# Altium integrated library TI_Logic_Gate.IntLib: 2017 symbols (part 50 of 56)
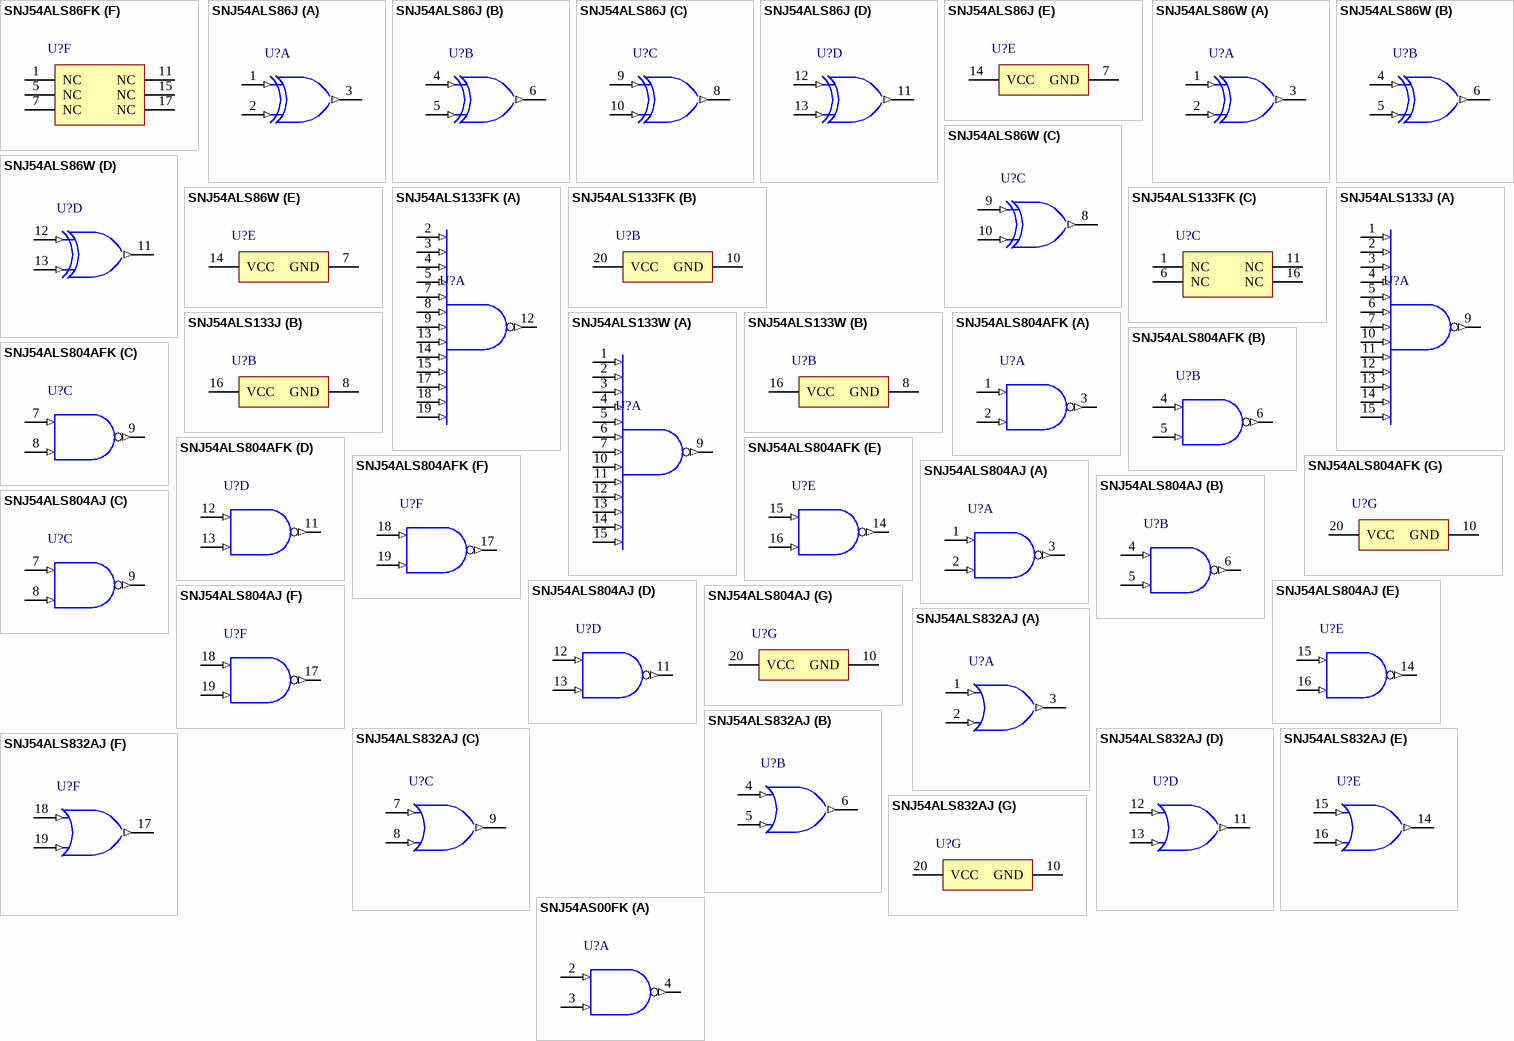
[diagram p274: symbols SNJ54ALS86FK to SNJ54AS00FK]

## SNJ54ALS804AFK
designator U?
Hex 2-Input NAND Drivers, FK0020A, TUBE; Generic Part Number: SN54ALS804A; Manufacturer: Texas Instruments; PartNumber: SNJ54ALS804AFK; VCC(Min)(V): 4.5; VCC(Max)(V): 5.5; Output Type: TTL; Rating: Military; Technology Family: ALS; Schmitt Trigger: No; DatasheetVersion: SDAS022C; PackageReference: FK0020A; Input Type: TTL; Operating Temperature Range(C): -55 to 125; Code_JEDEC: MS-004; ComponentLink1Description: Manufacturer URL; ComponentLink1URL: http://www.ti.com/; ComponentLink2Description: Datasheet; ComponentLink2URL: http://www.ti.com/lit/ds/symlink/sn54als804a.pdf; ComponentLink3Description: Package Specification; ComponentLink3URL: http://www.ti.com/lit/ml/mlcc006d/mlcc006d.pdf
footprint FK0020A_N (LCC, 20-Leads, Body 8.9x8.9mm, Pitch 1.27mm, IPC Medium Density)
footprint FK0020A_M (LCC, 20-Leads, Body 8.9x8.9mm, Pitch 1.27mm, IPC Low Density)
footprint FK0020A_L (LCC, 20-Leads, Body 8.9x8.9mm, Pitch 1.27mm, IPC High Density)
part A pins: 1 1A (in), 2 1B (in), 3 1Y (out)
part B pins: 4 2A (in), 5 2B (in), 6 2Y (out)
part C pins: 7 3A (in), 8 3B (in), 9 3Y (out)
part D pins: 11 4Y (out), 12 4A (in), 13 4B (in)
part E pins: 14 5Y (out), 15 5A (in), 16 5B (in)
part F pins: 17 6Y (out), 18 6A (in), 19 6B (in)
part G pins: 10 GND (power), 20 VCC (power)

## SNJ54ALS804AJ
designator U?
Hex 2-Input NAND Drivers, J0020A, TUBE; Generic Part Number: SN54ALS804A; Manufacturer: Texas Instruments; PartNumber: SNJ54ALS804AJ; VCC(Min)(V): 4.5; VCC(Max)(V): 5.5; Output Type: TTL; Rating: Military; Technology Family: ALS; Schmitt Trigger: No; DatasheetVersion: SDAS022C; PackageReference: J0020A; Input Type: TTL; Operating Temperature Range(C): -55 to 125; ComponentLink1Description: Manufacturer URL; ComponentLink1URL: http://www.ti.com/; ComponentLink2Description: Datasheet; ComponentLink2URL: http://www.ti.com/lit/ds/symlink/sn54als804a.pdf; ComponentLink3Description: Package Specification; ComponentLink3URL: http://www.ti.com/lit/ml/mcer002d/mcer002d.pdf
footprint J0020A (DIP, 20-Leads, Body 26.9x7.2mm, Pitch 2.54mm)
part A pins: 1 1A (in), 2 1B (in), 3 1Y (out)
part B pins: 4 2A (in), 5 2B (in), 6 2Y (out)
part C pins: 7 3A (in), 8 3B (in), 9 3Y (out)
part D pins: 11 4Y (out), 12 4A (in), 13 4B (in)
part E pins: 14 5Y (out), 15 5A (in), 16 5B (in)
part F pins: 17 6Y (out), 18 6A (in), 19 6B (in)
part G pins: 10 GND (power), 20 VCC (power)

## SNJ54ALS832AJ
designator U?
Hex 2-Input OR Drivers, J0020A, TUBE; Generic Part Number: SN54ALS832A; Manufacturer: Texas Instruments; PartNumber: SNJ54ALS832AJ; VCC(Min)(V): 4.5; VCC(Max)(V): 5.5; Output Type: TTL; Bits(#): 6; Rating: Military; tpd @ Nom Voltage(Max)(ns): 13; DatasheetVersion: SDAS017C; PackageReference: J0020A; Input Type: TTL; Operating Temperature Range(C): -55 to 125; ComponentLink1Description: Manufacturer URL; ComponentLink1URL: http://www.ti.com/; ComponentLink2Description: Datasheet; ComponentLink2URL: http://www.ti.com/lit/ds/symlink/sn54als832a.pdf; ComponentLink3Description: Package Specification; ComponentLink3URL: http://www.ti.com/lit/ml/mcer002d/mcer002d.pdf
footprint J0020A (DIP, 20-Leads, Body 26.9x7.2mm, Pitch 2.54mm)
part A pins: 1 1A (in), 2 1B (in), 3 1Y (out)
part B pins: 4 2A (in), 5 2B (in), 6 2Y (out)
part C pins: 7 3A (in), 8 3B (in), 9 3Y (out)
part D pins: 11 4Y (out), 12 4A (in), 13 4B (in)
part E pins: 14 5Y (out), 15 5A (in), 16 5B (in)
part F pins: 17 6Y (out), 18 6A (in), 19 6B (in)
part G pins: 10 GND (power), 20 VCC (power)

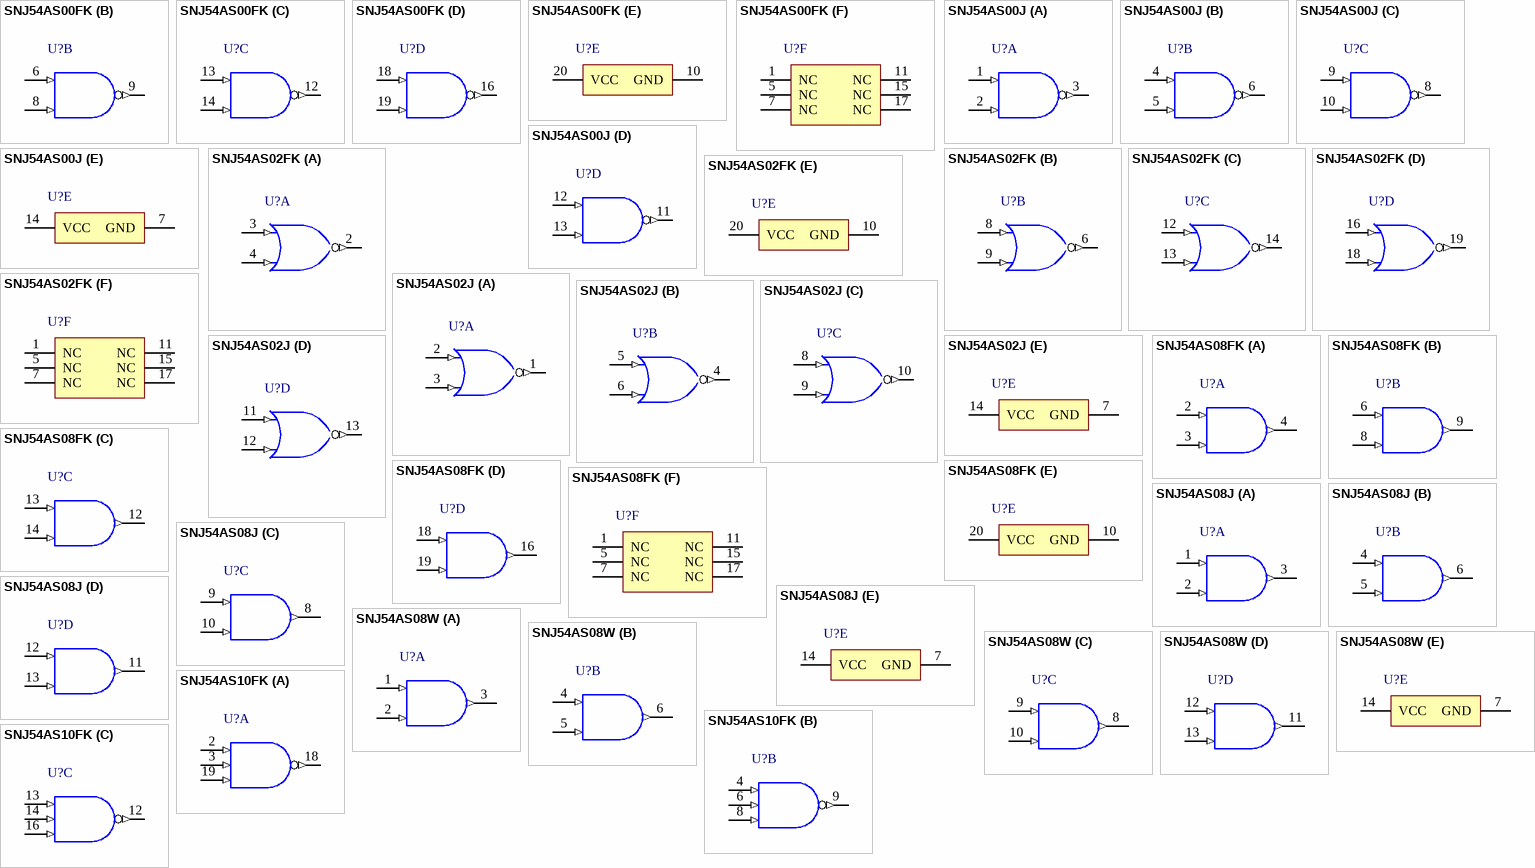
[diagram p198: symbols SNJ54AS00FK to SNJ54AS10FK]

## SNJ54AS00FK
designator U?
Quadruple 2-Input Positive-NAND Gates, FK0020A, TUBE; Generic Part Number: SN54AS00; Manufacturer: Texas Instruments; PartNumber: SNJ54AS00FK; VCC(Min)(V): 4.5; VCC(Max)(V): 5.5; Output Type: TTL; Rating: Military; Technology Family: AS; Schmitt Trigger: No; DatasheetVersion: SDAS187A; PackageReference: FK0020A; Input Type: TTL; Operating Temperature Range(C): -55 to 125; Code_JEDEC: MS-004; ComponentLink1Description: Manufacturer URL; ComponentLink1URL: http://www.ti.com/; ComponentLink2Description: Datasheet; ComponentLink2URL: http://www.ti.com/lit/ds/symlink/sn54as00.pdf; ComponentLink3Description: Package Specification; ComponentLink3URL: http://www.ti.com/lit/ml/mlcc006d/mlcc006d.pdf
footprint FK0020A_N (LCC, 20-Leads, Body 8.9x8.9mm, Pitch 1.27mm, IPC Medium Density)
footprint FK0020A_M (LCC, 20-Leads, Body 8.9x8.9mm, Pitch 1.27mm, IPC Low Density)
footprint FK0020A_L (LCC, 20-Leads, Body 8.9x8.9mm, Pitch 1.27mm, IPC High Density)
part A pins: 2 1A (in), 3 1B (in), 4 1Y (out)
part B pins: 6 2A (in), 8 2B (in), 9 2Y (out)
part C pins: 12 3Y (out), 13 3A (in), 14 3B (in)
part D pins: 16 4Y (out), 18 4A (in), 19 4B (in)
part E pins: 10 GND (power), 20 VCC (power)
part F pins: 1 NC, 5 NC, 7 NC, 11 NC, 15 NC, 17 NC

## SNJ54AS00J
designator U?
Quadruple 2-Input Positive-NAND Gates, J0014A, TUBE; Generic Part Number: SN54AS00; Manufacturer: Texas Instruments; PartNumber: SNJ54AS00J; VCC(Min)(V): 4.5; VCC(Max)(V): 5.5; Output Type: TTL; Rating: Military; Technology Family: AS; Schmitt Trigger: No; DatasheetVersion: SDAS187A; PackageReference: J0014A; Input Type: TTL; Operating Temperature Range(C): -55 to 125; ComponentLink1Description: Manufacturer URL; ComponentLink1URL: http://www.ti.com/; ComponentLink2Description: Datasheet; ComponentLink2URL: http://www.ti.com/lit/ds/symlink/sn54as00.pdf; ComponentLink3Description: Package Specification; ComponentLink3URL: http://www.ti.com/lit/ml/mcer002d/mcer002d.pdf
footprint J0014A (DIP, 14-Leads, Body 19.95x7.2mm, Pitch 2.54mm)
part A pins: 1 1A (in) "Gate 1 input", 2 1B (in) "Gate 1 input", 3 1Y (out) "Gate 1 output"
part B pins: 4 2A (in) "Gate 2 input", 5 2B (in) "Gate 2 input", 6 2Y (out) "Gate 2 output"
part C pins: 8 3Y (out) "Gate 3 output", 9 3A (in) "Gate 3 input", 10 3B (in) "Gate 3 input"
part D pins: 11 4Y (out) "Gate 4 output", 12 4A (in) "Gate 4 input", 13 4B (in) "Gate 4 input"
part E pins: 7 GND (power) "Ground Pin", 14 VCC (power) "Power Pin"

## SNJ54AS02FK
designator U?
Quadruple 2-Input Positive-NOR Gates, FK0020A, TUBE; Generic Part Number: SN54AS02; Manufacturer: Texas Instruments; PartNumber: SNJ54AS02FK; VCC(Min)(V): 4.5; VCC(Max)(V): 5.5; Output Type: TTL; Bits(#): 4; Rating: Military; tpd @ Nom Voltage(Max)(ns): 6; DatasheetVersion: SDAS111B; PackageReference: FK0020A; Input Type: TTL; Operating Temperature Range(C): -55 to 125; Code_JEDEC: MS-004; ComponentLink1Description: Manufacturer URL; ComponentLink1URL: http://www.ti.com/; ComponentLink2Description: Datasheet; ComponentLink2URL: http://www.ti.com/lit/ds/symlink/sn54as02.pdf; ComponentLink3Description: Package Specification; ComponentLink3URL: http://www.ti.com/lit/ml/mlcc006d/mlcc006d.pdf
footprint FK0020A_N (LCC, 20-Leads, Body 8.9x8.9mm, Pitch 1.27mm, IPC Medium Density)
footprint FK0020A_M (LCC, 20-Leads, Body 8.9x8.9mm, Pitch 1.27mm, IPC Low Density)
footprint FK0020A_L (LCC, 20-Leads, Body 8.9x8.9mm, Pitch 1.27mm, IPC High Density)
part A pins: 2 1Y (out), 3 1A (in), 4 1B (in)
part B pins: 6 2Y (out), 8 2A (in), 9 2B (in)
part C pins: 12 3A (in), 13 3B (in), 14 3Y (out)
part D pins: 16 4A (in), 18 4B (in), 19 4Y (out)
part E pins: 10 GND (power), 20 VCC (power)
part F pins: 1 NC, 5 NC, 7 NC, 11 NC, 15 NC, 17 NC

## SNJ54AS02J
designator U?
Quadruple 2-Input Positive-NOR Gates, J0014A, TUBE; Generic Part Number: SN54AS02; Manufacturer: Texas Instruments; PartNumber: SNJ54AS02J; VCC(Min)(V): 4.5; VCC(Max)(V): 5.5; Output Type: TTL; Bits(#): 4; Rating: Military; tpd @ Nom Voltage(Max)(ns): 6; DatasheetVersion: SDAS111B; PackageReference: J0014A; Input Type: TTL; Operating Temperature Range(C): -55 to 125; ComponentLink1Description: Manufacturer URL; ComponentLink1URL: http://www.ti.com/; ComponentLink2Description: Datasheet; ComponentLink2URL: http://www.ti.com/lit/ds/symlink/sn54as02.pdf; ComponentLink3Description: Package Specification; ComponentLink3URL: http://www.ti.com/lit/ml/mcer002d/mcer002d.pdf
footprint J0014A (DIP, 14-Leads, Body 19.95x7.2mm, Pitch 2.54mm)
part A pins: 1 1Y (out) "1Y output", 2 1A (in) "1A input", 3 1B (in) "1B input"
part B pins: 4 2Y (out) "2Y output", 5 2A (in) "2A input", 6 2B (in) "2B input"
part C pins: 8 3A (in) "3A input", 9 3B (in) "3B input", 10 3Y (out) "3Y output"
part D pins: 11 4A (in) "4A input", 12 4B (in) "4B input", 13 4Y (out) "4Y output"
part E pins: 7 GND (power), 14 VCC (power)

## SNJ54AS08FK
designator U?
Quadruple 2-Input Positive-AND Gates, FK0020A, TUBE; Generic Part Number: SN54AS08; Manufacturer: Texas Instruments; PartNumber: SNJ54AS08FK; VCC(Min)(V): 4.5; VCC(Max)(V): 5.5; Output Type: TTL; Rating: Military; Technology Family: AS; Schmitt Trigger: No; Output Drive (IOL/IOH)(Max)(mA): -0.4/4; tpd @ Nom Voltage(Max)(ns): 6.5; DatasheetVersion: SDAS191A; PackageReference: FK0020A; Input Type: TTL; Operating Temperature Range(C): -55 to 125; Code_JEDEC: MS-004; ComponentLink1Description: Manufacturer URL; ComponentLink1URL: http://www.ti.com/; ComponentLink2Description: Datasheet; ComponentLink2URL: http://www.ti.com/lit/ds/symlink/sn54as08.pdf; ComponentLink3Description: Package Specification; ComponentLink3URL: http://www.ti.com/lit/ml/mlcc006d/mlcc006d.pdf
footprint FK0020A_N (LCC, 20-Leads, Body 8.9x8.9mm, Pitch 1.27mm, IPC Medium Density)
footprint FK0020A_M (LCC, 20-Leads, Body 8.9x8.9mm, Pitch 1.27mm, IPC Low Density)
footprint FK0020A_L (LCC, 20-Leads, Body 8.9x8.9mm, Pitch 1.27mm, IPC High Density)
part A pins: 2 1A (in), 3 1B (in), 4 1Y (out)
part B pins: 6 2A (in), 8 2B (in), 9 2Y (out)
part C pins: 12 3Y (out), 13 3A (in), 14 3B (in)
part D pins: 16 4Y (out), 18 4A (in), 19 4B (in)
part E pins: 10 GND (power), 20 VCC (power)
part F pins: 1 NC, 5 NC, 7 NC, 11 NC, 15 NC, 17 NC

## SNJ54AS08J
designator U?
Quadruple 2-Input Positive-AND Gates, J0014A, TUBE; Generic Part Number: SN54AS08; Manufacturer: Texas Instruments; PartNumber: SNJ54AS08J; VCC(Min)(V): 4.5; VCC(Max)(V): 5.5; Output Type: TTL; Rating: Military; Technology Family: AS; Schmitt Trigger: No; Output Drive (IOL/IOH)(Max)(mA): -0.4/4; tpd @ Nom Voltage(Max)(ns): 6.5; DatasheetVersion: SDAS191A; PackageReference: J0014A; Input Type: TTL; Operating Temperature Range(C): -55 to 125; ComponentLink1Description: Manufacturer URL; ComponentLink1URL: http://www.ti.com/; ComponentLink2Description: Datasheet; ComponentLink2URL: http://www.ti.com/lit/ds/symlink/sn54as08.pdf
footprint J0014A (DIP, 14-Leads, Body 19.95x7.2mm, Pitch 2.54mm)
part A pins: 1 1A (in), 2 1B (in), 3 1Y (out)
part B pins: 4 2A (in), 5 2B (in), 6 2Y (out)
part C pins: 8 3Y (out), 9 3A (in), 10 3B (in)
part D pins: 11 4Y (out), 12 4A (in), 13 4B (in)
part E pins: 7 GND (power), 14 VCC (power)

## SNJ54AS08W
designator U?
Quadruple 2-Input Positive-AND Gates, W0014A, TUBE; Generic Part Number: SN54AS08; Manufacturer: Texas Instruments; PartNumber: SNJ54AS08W; VCC(Min)(V): 4.5; VCC(Max)(V): 5.5; Output Type: TTL; Rating: Military; Technology Family: AS; Schmitt Trigger: No; Output Drive (IOL/IOH)(Max)(mA): -0.4/4; tpd @ Nom Voltage(Max)(ns): 6.5; DatasheetVersion: SDAS191A; PackageReference: W0014A; Input Type: TTL; Operating Temperature Range(C): -55 to 125; ComponentLink1Description: Manufacturer URL; ComponentLink1URL: http://www.ti.com/; ComponentLink2Description: Datasheet; ComponentLink2URL: http://www.ti.com/lit/ds/symlink/sn54as08.pdf
footprint W0014A_N (CFP, 14-Leads, Body 9.91x6.6mm, Pitch 1.27mm, IPC Medium Density)
footprint W0014A_M (CFP, 14-Leads, Body 9.91x6.6mm, Pitch 1.27mm, IPC Low Density)
footprint W0014A_L (CFP, 14-Leads, Body 9.91x6.6mm, Pitch 1.27mm, IPC High Density)
part A pins: 1 1A (in), 2 1B (in), 3 1Y (out)
part B pins: 4 2A (in), 5 2B (in), 6 2Y (out)
part C pins: 8 3Y (out), 9 3A (in), 10 3B (in)
part D pins: 11 4Y (out), 12 4A (in), 13 4B (in)
part E pins: 7 GND (power), 14 VCC (power)

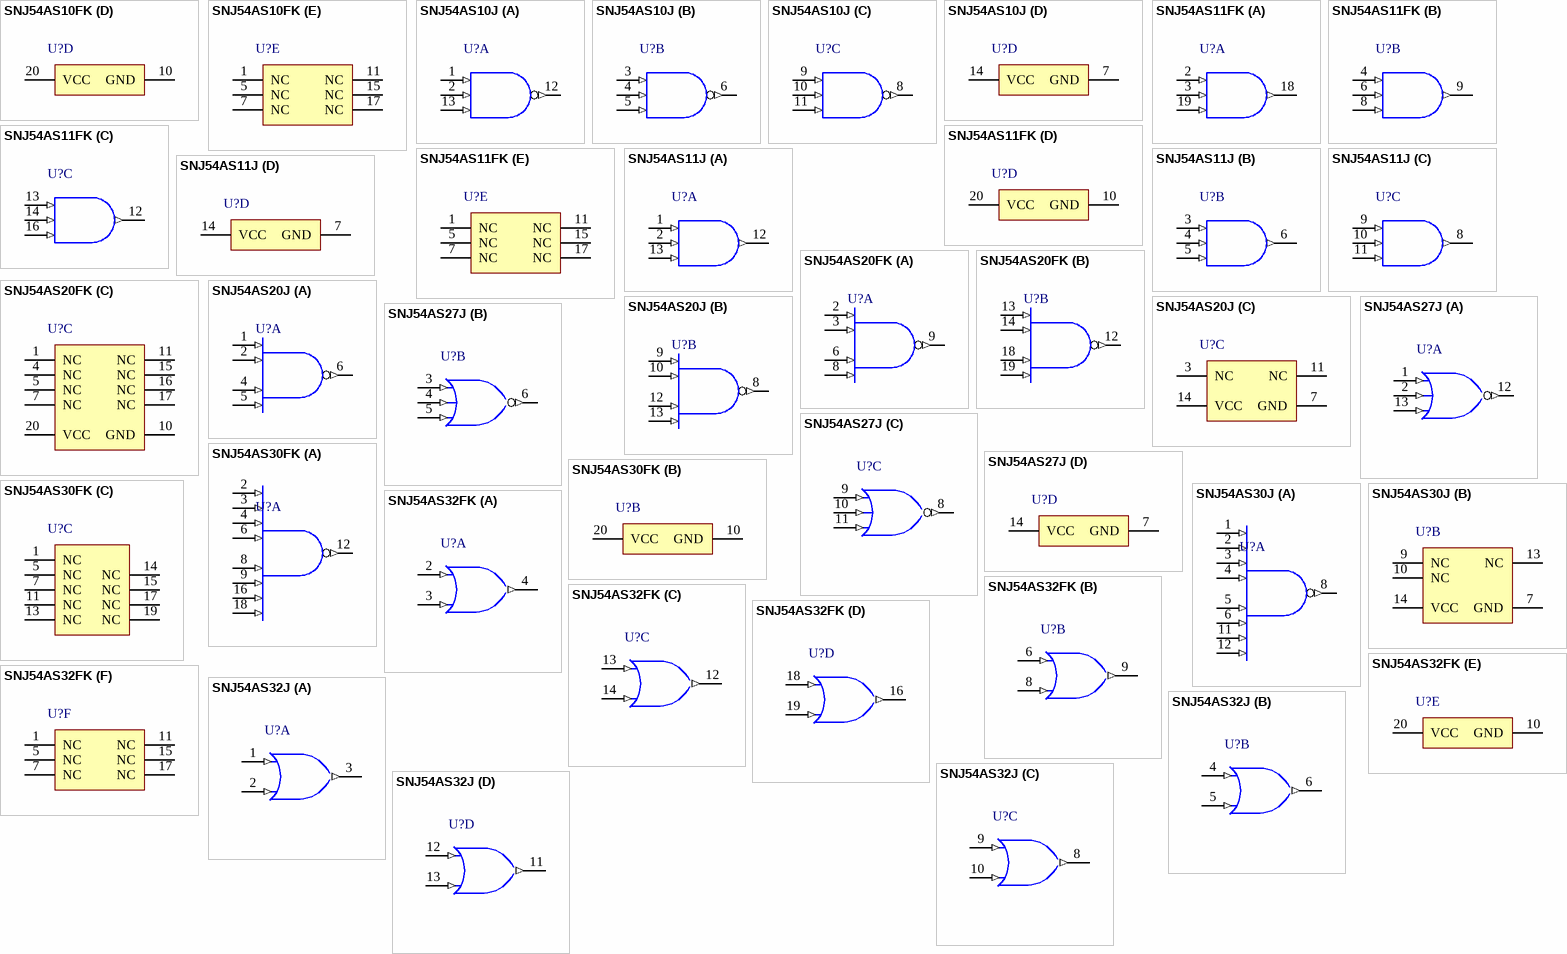
[diagram p199: symbols SNJ54AS10FK to SNJ54AS32J]

## SNJ54AS10FK
designator U?
Triple 3-Input Positive-NAND Gates, FK0020A, TUBE; Generic Part Number: SN54AS10; Manufacturer: Texas Instruments; PartNumber: SNJ54AS10FK; VCC(Min)(V): 4.5; VCC(Max)(V): 5.5; Output Type: TTL; Rating: Military; Technology Family: AS; Schmitt Trigger: No; DatasheetVersion: SDAS002B; PackageReference: FK0020A; Input Type: TTL; Operating Temperature Range(C): -55 to 125; Code_JEDEC: MS-004; ComponentLink1Description: Manufacturer URL; ComponentLink1URL: http://www.ti.com/; ComponentLink2Description: Datasheet; ComponentLink2URL: http://www.ti.com/lit/ds/symlink/sn54as10.pdf; ComponentLink3Description: Package Specification; ComponentLink3URL: http://www.ti.com/lit/ml/mlcc006d/mlcc006d.pdf
footprint FK0020A_N (LCC, 20-Leads, Body 8.9x8.9mm, Pitch 1.27mm, IPC Medium Density)
footprint FK0020A_M (LCC, 20-Leads, Body 8.9x8.9mm, Pitch 1.27mm, IPC Low Density)
footprint FK0020A_L (LCC, 20-Leads, Body 8.9x8.9mm, Pitch 1.27mm, IPC High Density)
part A pins: 2 1A (in), 3 1B (in), 18 1Y (out), 19 1C (in)
part B pins: 4 2A (in), 6 2B (in), 8 2C (in), 9 2Y (out)
part C pins: 12 3Y (out), 13 3A (in), 14 3B (in), 16 3C (in)
part D pins: 10 GND (power), 20 VCC (power)
part E pins: 1 NC, 5 NC, 7 NC, 11 NC, 15 NC, 17 NC

## SNJ54AS10J
designator U?
Triple 3-Input Positive-NAND Gates, J0014A, TUBE; Generic Part Number: SN54AS10; Manufacturer: Texas Instruments; PartNumber: SNJ54AS10J; VCC(Min)(V): 4.5; VCC(Max)(V): 5.5; Output Type: TTL; Rating: Military; Technology Family: AS; Schmitt Trigger: No; DatasheetVersion: SDAS002B; PackageReference: J0014A; Input Type: TTL; Operating Temperature Range(C): -55 to 125; ComponentLink1Description: Manufacturer URL; ComponentLink1URL: http://www.ti.com/; ComponentLink2Description: Datasheet; ComponentLink2URL: http://www.ti.com/lit/ds/symlink/sn54as10.pdf; ComponentLink3Description: Package Specification; ComponentLink3URL: http://www.ti.com/lit/ml/mcer002d/mcer002d.pdf
footprint J0014A (DIP, 14-Leads, Body 19.95x7.2mm, Pitch 2.54mm)
part A pins: 1 1A (in), 2 1B (in), 12 1Y (out), 13 1C (in)
part B pins: 3 2A (in), 4 2B (in), 5 2C (in), 6 2Y (out)
part C pins: 8 3Y (out), 9 3A (in), 10 3B (in), 11 3C (in)
part D pins: 7 GND (power), 14 VCC (power)

## SNJ54AS11FK
designator U?
Triple 3-Input Positive-AND Gates, FK0020A, TUBE; Generic Part Number: SN54AS11; Manufacturer: Texas Instruments; PartNumber: SNJ54AS11FK; VCC(Min)(V): 4.5; VCC(Max)(V): 5.5; Output Type: TTL; Rating: Military; Technology Family: AS; Schmitt Trigger: No; tpd @ Nom Voltage(Max)(ns): 6.5; DatasheetVersion: SDAS009D; PackageReference: FK0020A; Input Type: TTL; Operating Temperature Range(C): -55 to 125; Code_JEDEC: MS-004; ComponentLink1Description: Manufacturer URL; ComponentLink1URL: http://www.ti.com/; ComponentLink2Description: Datasheet; ComponentLink2URL: http://www.ti.com/lit/ds/symlink/sn54as11.pdf; ComponentLink3Description: Package Specification; ComponentLink3URL: http://www.ti.com/lit/ml/mlcc006d/mlcc006d.pdf
footprint FK0020A_N (LCC, 20-Leads, Body 8.9x8.9mm, Pitch 1.27mm, IPC Medium Density)
footprint FK0020A_M (LCC, 20-Leads, Body 8.9x8.9mm, Pitch 1.27mm, IPC Low Density)
footprint FK0020A_L (LCC, 20-Leads, Body 8.9x8.9mm, Pitch 1.27mm, IPC High Density)
part A pins: 2 1A (in), 3 1B (in), 18 1Y (out), 19 1C (in)
part B pins: 4 2A (in), 6 2B (in), 8 2C (in), 9 2Y (out)
part C pins: 12 3Y (out), 13 3A (in), 14 3B (in), 16 3C (in)
part D pins: 10 GND (power), 20 VCC (power)
part E pins: 1 NC, 5 NC, 7 NC, 11 NC, 15 NC, 17 NC

## SNJ54AS11J
designator U?
Triple 3-Input Positive-AND Gates, J0014A, TUBE; Generic Part Number: SN54AS11; Manufacturer: Texas Instruments; PartNumber: SNJ54AS11J; VCC(Min)(V): 4.5; VCC(Max)(V): 5.5; Output Type: TTL; Rating: Military; Technology Family: AS; Schmitt Trigger: No; tpd @ Nom Voltage(Max)(ns): 6.5; DatasheetVersion: SDAS009D; PackageReference: J0014A; Input Type: TTL; Operating Temperature Range(C): -55 to 125; ComponentLink1Description: Manufacturer URL; ComponentLink1URL: http://www.ti.com/; ComponentLink2Description: Datasheet; ComponentLink2URL: http://www.ti.com/lit/ds/symlink/sn54as11.pdf
footprint J0014A (DIP, 14-Leads, Body 19.95x7.2mm, Pitch 2.54mm)
part A pins: 1 1A (in), 2 1B (in), 12 1Y (out), 13 1C (in)
part B pins: 3 2A (in), 4 2B (in), 5 2C (in), 6 2Y (out)
part C pins: 8 3Y (out), 9 3A (in), 10 3B (in), 11 3C (in)
part D pins: 7 GND (power), 14 VCC (power)

## SNJ54AS20FK
designator U?
Dual 4-Input Positive-NAND Gates, FK0020A, TUBE; Generic Part Number: SN54AS20; Manufacturer: Texas Instruments; PartNumber: SNJ54AS20FK; VCC(Min)(V): 4.5; VCC(Max)(V): 5.5; Output Type: TTL; Rating: Military; Technology Family: AS; Schmitt Trigger: No; DatasheetVersion: SDAS192B; PackageReference: FK0020A; Input Type: TTL; Operating Temperature Range(C): -55 to 125; Code_JEDEC: MS-004; ComponentLink1Description: Manufacturer URL; ComponentLink1URL: http://www.ti.com/; ComponentLink2Description: Datasheet; ComponentLink2URL: http://www.ti.com/lit/ds/symlink/sn54as20.pdf; ComponentLink3Description: Package Specification; ComponentLink3URL: http://www.ti.com/lit/ml/mlcc006d/mlcc006d.pdf
footprint FK0020A_N (LCC, 20-Leads, Body 8.9x8.9mm, Pitch 1.27mm, IPC Medium Density)
footprint FK0020A_M (LCC, 20-Leads, Body 8.9x8.9mm, Pitch 1.27mm, IPC Low Density)
footprint FK0020A_L (LCC, 20-Leads, Body 8.9x8.9mm, Pitch 1.27mm, IPC High Density)
part A pins: 2 1A (in), 3 1B (in), 6 1C (in), 8 1D (in), 9 1Y (out)
part B pins: 12 2Y (out), 13 2A (in), 14 2B (in), 18 2C (in), 19 2D (in)
part C pins: 1 NC, 4 NC, 5 NC, 7 NC, 10 GND (power), 11 NC, 15 NC, 16 NC, 17 NC, 20 VCC (power)

## SNJ54AS20J
designator U?
Dual 4-Input Positive-NAND Gates, J0014A, TUBE; Generic Part Number: SN54AS20; Manufacturer: Texas Instruments; PartNumber: SNJ54AS20J; VCC(Min)(V): 4.5; VCC(Max)(V): 5.5; Output Type: TTL; Rating: Military; Technology Family: AS; Schmitt Trigger: No; DatasheetVersion: SDAS192B; PackageReference: J0014A; Input Type: TTL; Operating Temperature Range(C): -55 to 125; ComponentLink1Description: Manufacturer URL; ComponentLink1URL: http://www.ti.com/; ComponentLink2Description: Datasheet; ComponentLink2URL: http://www.ti.com/lit/ds/symlink/sn54as20.pdf; ComponentLink3Description: Package Specification; ComponentLink3URL: http://www.ti.com/lit/ml/mcer002d/mcer002d.pdf
footprint J0014A (DIP, 14-Leads, Body 19.95x7.2mm, Pitch 2.54mm)
part A pins: 1 1A (in), 2 1B (in), 4 1C (in), 5 1D (in), 6 1Y (out)
part B pins: 8 2Y (out), 9 2A (in), 10 2B (in), 12 2C (in), 13 2D (in)
part C pins: 3 NC, 7 GND (power), 11 NC, 14 VCC (power)

## SNJ54AS27J
designator U?
Triple 3-Input Positive-NOR Gates, J0014A, TUBE; Generic Part Number: SN54AS27; Manufacturer: Texas Instruments; PartNumber: SNJ54AS27J; VCC(Min)(V): 4.5; VCC(Max)(V): 5.5; Output Type: TTL; Bits(#): 3; Rating: Military; tpd @ Nom Voltage(Max)(ns): 6.5; DatasheetVersion: SDAS112B; PackageReference: J0014A; Input Type: TTL; Operating Temperature Range(C): -55 to 125; ComponentLink1Description: Manufacturer URL; ComponentLink1URL: http://www.ti.com/; ComponentLink2Description: Datasheet; ComponentLink2URL: http://www.ti.com/lit/ds/symlink/sn54as27.pdf; ComponentLink3Description: Package Specification; ComponentLink3URL: http://www.ti.com/lit/ml/mcer002d/mcer002d.pdf
footprint J0014A (DIP, 14-Leads, Body 19.95x7.2mm, Pitch 2.54mm)
part A pins: 1 1A (in), 2 1B (in), 12 1Y (out), 13 1C (in)
part B pins: 3 2A (in), 4 2B (in), 5 2C (in), 6 2Y (out)
part C pins: 8 3Y (out), 9 3A (in), 10 3B (in), 11 3C (in)
part D pins: 7 GND (power), 14 VCC (power)

## SNJ54AS30FK
designator U?
8-Input Positive-NAND Gates, FK0020A, TUBE; Generic Part Number: SN54AS30; Manufacturer: Texas Instruments; PartNumber: SNJ54AS30FK; VCC(Min)(V): 4.5; VCC(Max)(V): 5.5; Output Type: TTL; Rating: Military; Technology Family: AS; Schmitt Trigger: No; DatasheetVersion: SDAS010E; PackageReference: FK0020A; Input Type: TTL; Operating Temperature Range(C): -55 to 125; Code_JEDEC: MS-004; ComponentLink1Description: Manufacturer URL; ComponentLink1URL: http://www.ti.com/; ComponentLink2Description: Datasheet; ComponentLink2URL: http://www.ti.com/lit/ds/symlink/sn54as30.pdf; ComponentLink3Description: Package Specification; ComponentLink3URL: http://www.ti.com/lit/ml/mlcc006d/mlcc006d.pdf
footprint FK0020A_N (LCC, 20-Leads, Body 8.9x8.9mm, Pitch 1.27mm, IPC Medium Density)
footprint FK0020A_M (LCC, 20-Leads, Body 8.9x8.9mm, Pitch 1.27mm, IPC Low Density)
footprint FK0020A_L (LCC, 20-Leads, Body 8.9x8.9mm, Pitch 1.27mm, IPC High Density)
part A pins: 2 A (in), 3 B (in), 4 C (in), 6 D (in), 8 E (in), 9 F (in), 12 Y (out), 16 G (in), 18 H (in)
part B pins: 10 GND (power), 20 VCC (power)
part C pins: 1 NC, 5 NC, 7 NC, 11 NC, 13 NC, 14 NC, 15 NC, 17 NC, 19 NC

## SNJ54AS30J
designator U?
8-Input Positive-NAND Gates, J0014A, TUBE; Generic Part Number: SN54AS30; Manufacturer: Texas Instruments; PartNumber: SNJ54AS30J; VCC(Min)(V): 4.5; VCC(Max)(V): 5.5; Output Type: TTL; Rating: Military; Technology Family: AS; Schmitt Trigger: No; DatasheetVersion: SDAS010E; PackageReference: J0014A; Input Type: TTL; Operating Temperature Range(C): -55 to 125; ComponentLink1Description: Manufacturer URL; ComponentLink1URL: http://www.ti.com/; ComponentLink2Description: Datasheet; ComponentLink2URL: http://www.ti.com/lit/ds/symlink/sn54as30.pdf; ComponentLink3Description: Package Specification; ComponentLink3URL: http://www.ti.com/lit/ml/mcer002d/mcer002d.pdf
footprint J0014A (DIP, 14-Leads, Body 19.95x7.2mm, Pitch 2.54mm)
part A pins: 1 A (in), 2 B (in), 3 C (in), 4 D (in), 5 E (in), 6 F (in), 8 ~{Y} (out), 11 G (in), 12 H (in)
part B pins: 7 GND (power), 9 NC, 10 NC, 13 NC, 14 VCC (power)

## SNJ54AS32FK
designator U?
Quadruple 2-Input Positive-OR Gates, FK0020A, TUBE; Generic Part Number: SN54AS32; Manufacturer: Texas Instruments; PartNumber: SNJ54AS32FK; VCC(Min)(V): 4.5; VCC(Max)(V): 5.5; Output Type: TTL; Bits(#): 4; Rating: Military; tpd @ Nom Voltage(Max)(ns): 6.5; DatasheetVersion: SDAS113B; PackageReference: FK0020A; Input Type: TTL; Operating Temperature Range(C): -55 to 125; Code_JEDEC: MS-004; ComponentLink1Description: Manufacturer URL; ComponentLink1URL: http://www.ti.com/; ComponentLink2Description: Datasheet; ComponentLink2URL: http://www.ti.com/lit/ds/symlink/sn54as32.pdf; ComponentLink3Description: Package Specification; ComponentLink3URL: http://www.ti.com/lit/ml/mlcc006d/mlcc006d.pdf
footprint FK0020A_N (LCC, 20-Leads, Body 8.9x8.9mm, Pitch 1.27mm, IPC Medium Density)
footprint FK0020A_M (LCC, 20-Leads, Body 8.9x8.9mm, Pitch 1.27mm, IPC Low Density)
footprint FK0020A_L (LCC, 20-Leads, Body 8.9x8.9mm, Pitch 1.27mm, IPC High Density)
part A pins: 2 1A (in), 3 1B (in), 4 1Y (out)
part B pins: 6 2A (in), 8 2B (in), 9 2Y (out)
part C pins: 12 3Y (out), 13 3A (in), 14 3B (in)
part D pins: 16 4Y (out), 18 4A (in), 19 4B (in)
part E pins: 10 GND (power), 20 VCC (power)
part F pins: 1 NC, 5 NC, 7 NC, 11 NC, 15 NC, 17 NC

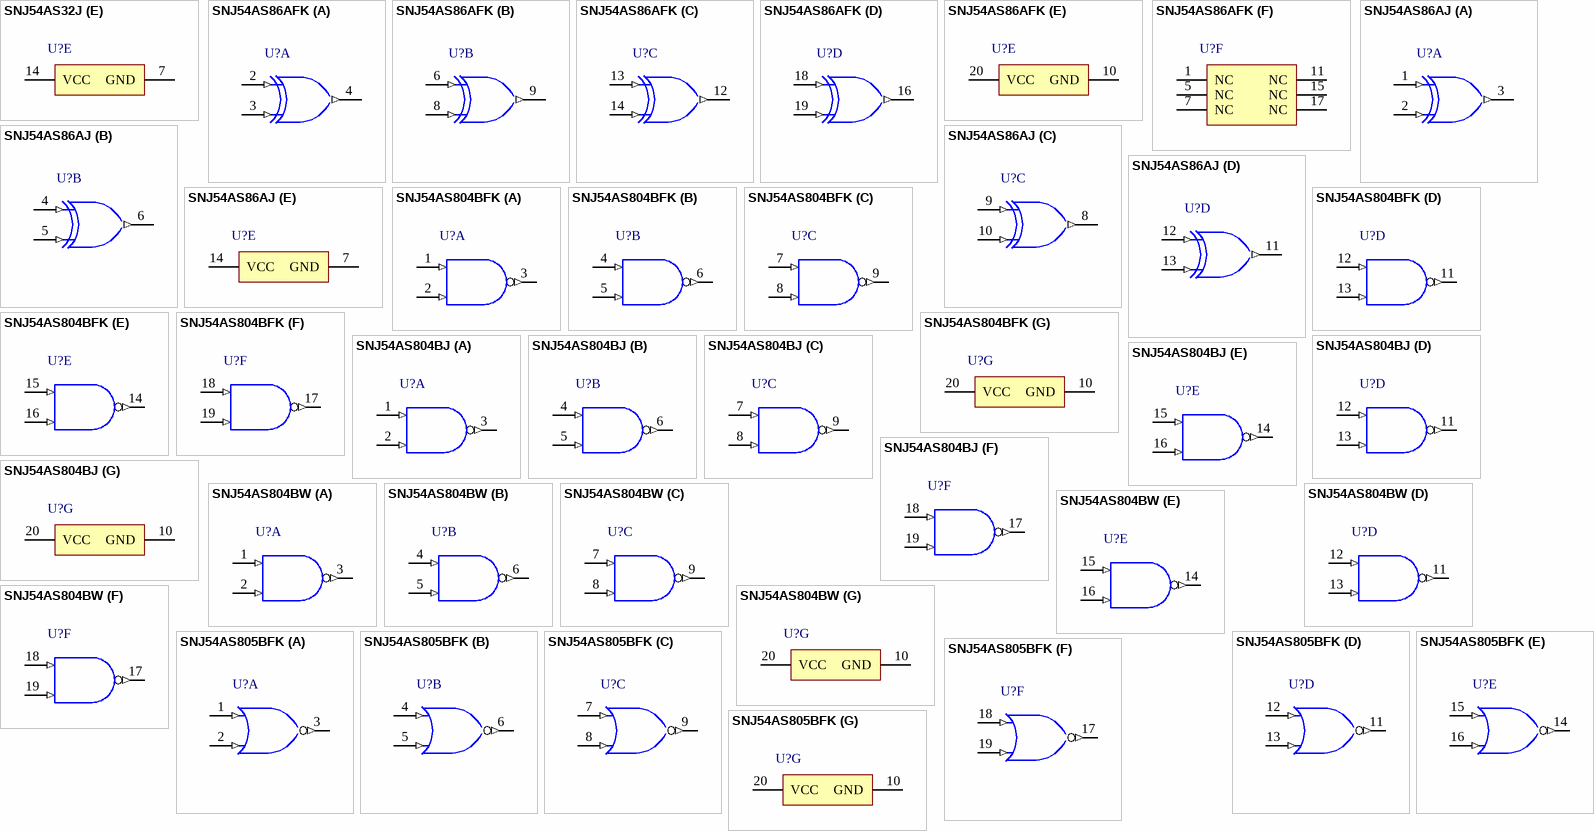
[diagram p200: symbols SNJ54AS32J to SNJ54AS805BFK]

## SNJ54AS32J
designator U?
Quadruple 2-Input Positive-OR Gates, J0014A, TUBE; Generic Part Number: SN54AS32; Manufacturer: Texas Instruments; PartNumber: SNJ54AS32J; VCC(Min)(V): 4.5; VCC(Max)(V): 5.5; Output Type: TTL; Bits(#): 4; Rating: Military; tpd @ Nom Voltage(Max)(ns): 6.5; DatasheetVersion: SDAS113B; PackageReference: J0014A; Input Type: TTL; Operating Temperature Range(C): -55 to 125; ComponentLink1Description: Manufacturer URL; ComponentLink1URL: http://www.ti.com/; ComponentLink2Description: Datasheet; ComponentLink2URL: http://www.ti.com/lit/ds/symlink/sn54as32.pdf; ComponentLink3Description: Package Specification; ComponentLink3URL: http://www.ti.com/lit/ml/mcer002d/mcer002d.pdf
footprint J0014A (DIP, 14-Leads, Body 19.95x7.2mm, Pitch 2.54mm)
part A pins: 1 1A (in), 2 1B (in), 3 1Y (out)
part B pins: 4 2A (in), 5 2B (in), 6 2Y (out)
part C pins: 8 3Y (out), 9 3A (in), 10 3B (in)
part D pins: 11 4Y (out), 12 4A (in), 13 4B (in)
part E pins: 7 GND (power), 14 VCC (power)

## SNJ54AS86AFK
designator U?
Quadruple 2-Input Exclusive-OR Gates, FK0020A, TUBE; Generic Part Number: SN54AS86A; Manufacturer: Texas Instruments; PartNumber: SNJ54AS86AFK; VCC(Min)(V): 4.5; VCC(Max)(V): 5.5; Output Type: TTL; Rating: Military; Technology Family: AS; Schmitt Trigger: No; DatasheetVersion: SDAS006B; PackageReference: FK0020A; Input Type: TTL; Operating Temperature Range(C): -55 to 125; Code_JEDEC: MS-004; ComponentLink1Description: Manufacturer URL; ComponentLink1URL: http://www.ti.com/; ComponentLink2Description: Datasheet; ComponentLink2URL: http://www.ti.com/lit/ds/symlink/sn54as86a.pdf; ComponentLink3Description: Package Specification; ComponentLink3URL: http://www.ti.com/lit/ml/mlcc006d/mlcc006d.pdf
footprint FK0020A_N (LCC, 20-Leads, Body 8.9x8.9mm, Pitch 1.27mm, IPC Medium Density)
footprint FK0020A_M (LCC, 20-Leads, Body 8.9x8.9mm, Pitch 1.27mm, IPC Low Density)
footprint FK0020A_L (LCC, 20-Leads, Body 8.9x8.9mm, Pitch 1.27mm, IPC High Density)
part A pins: 2 1A (in), 3 1B (in), 4 1Y (out)
part B pins: 6 2A (in), 8 2B (in), 9 2Y (out)
part C pins: 12 3Y (out), 13 3A (in), 14 3B (in)
part D pins: 16 4Y (out), 18 4A (in), 19 4B (in)
part E pins: 10 GND (power), 20 VCC (power)
part F pins: 1 NC, 5 NC, 7 NC, 11 NC, 15 NC, 17 NC

## SNJ54AS86AJ
designator U?
Quadruple 2-Input Exclusive-OR Gates, J0014A, TUBE; Generic Part Number: SN54AS86A; Manufacturer: Texas Instruments; PartNumber: SNJ54AS86AJ; VCC(Min)(V): 4.5; VCC(Max)(V): 5.5; Output Type: TTL; Rating: Military; Technology Family: AS; Schmitt Trigger: No; DatasheetVersion: SDAS006B; PackageReference: J0014A; Input Type: TTL; Operating Temperature Range(C): -55 to 125; ComponentLink1Description: Manufacturer URL; ComponentLink1URL: http://www.ti.com/; ComponentLink2Description: Datasheet; ComponentLink2URL: http://www.ti.com/lit/ds/symlink/sn54as86a.pdf
footprint J0014A (DIP, 14-Leads, Body 19.95x7.2mm, Pitch 2.54mm)
part A pins: 1 1A (in), 2 1B (in), 3 1Y (out)
part B pins: 4 2A (in), 5 2B (in), 6 2Y (out)
part C pins: 8 3Y (out), 9 3A (in), 10 3B (in)
part D pins: 11 4Y (out), 12 4A (in), 13 4B (in)
part E pins: 7 GND (power), 14 VCC (power)

## SNJ54AS804BFK
designator U?
Hex 2-Input NAND Drivers, FK0020A, TUBE; Generic Part Number: SN54AS804B; Manufacturer: Texas Instruments; PartNumber: SNJ54AS804BFK; VCC(Min)(V): 4.5; VCC(Max)(V): 5.5; Output Type: TTL; Rating: Military; Technology Family: AS; Schmitt Trigger: No; DatasheetVersion: SDAS022C; PackageReference: FK0020A; Input Type: TTL; Operating Temperature Range(C): -55 to 125; Code_JEDEC: MS-004; ComponentLink1Description: Manufacturer URL; ComponentLink1URL: http://www.ti.com/; ComponentLink2Description: Datasheet; ComponentLink2URL: http://www.ti.com/lit/ds/symlink/sn54as804b.pdf; ComponentLink3Description: Package Specification; ComponentLink3URL: http://www.ti.com/lit/ml/mlcc006d/mlcc006d.pdf
footprint FK0020A_N (LCC, 20-Leads, Body 8.9x8.9mm, Pitch 1.27mm, IPC Medium Density)
footprint FK0020A_M (LCC, 20-Leads, Body 8.9x8.9mm, Pitch 1.27mm, IPC Low Density)
footprint FK0020A_L (LCC, 20-Leads, Body 8.9x8.9mm, Pitch 1.27mm, IPC High Density)
part A pins: 1 1A (in), 2 1B (in), 3 1Y (out)
part B pins: 4 2A (in), 5 2B (in), 6 2Y (out)
part C pins: 7 3A (in), 8 3B (in), 9 3Y (out)
part D pins: 11 4Y (out), 12 4A (in), 13 4B (in)
part E pins: 14 5Y (out), 15 5A (in), 16 5B (in)
part F pins: 17 6Y (out), 18 6A (in), 19 6B (in)
part G pins: 10 GND (power), 20 VCC (power)

## SNJ54AS804BJ
designator U?
Hex 2-Input NAND Drivers, J0020A, TUBE; Generic Part Number: SN54AS804B; Manufacturer: Texas Instruments; PartNumber: SNJ54AS804BJ; VCC(Min)(V): 4.5; VCC(Max)(V): 5.5; Output Type: TTL; Rating: Military; Technology Family: AS; Schmitt Trigger: No; DatasheetVersion: SDAS022C; PackageReference: J0020A; Input Type: TTL; Operating Temperature Range(C): -55 to 125; ComponentLink1Description: Manufacturer URL; ComponentLink1URL: http://www.ti.com/; ComponentLink2Description: Datasheet; ComponentLink2URL: http://www.ti.com/lit/ds/symlink/sn54as804b.pdf; ComponentLink3Description: Package Specification; ComponentLink3URL: http://www.ti.com/lit/ml/mcer002d/mcer002d.pdf
footprint J0020A (DIP, 20-Leads, Body 26.9x7.2mm, Pitch 2.54mm)
part A pins: 1 1A (in), 2 1B (in), 3 1Y (out)
part B pins: 4 2A (in), 5 2B (in), 6 2Y (out)
part C pins: 7 3A (in), 8 3B (in), 9 3Y (out)
part D pins: 11 4Y (out), 12 4A (in), 13 4B (in)
part E pins: 14 5Y (out), 15 5A (in), 16 5B (in)
part F pins: 17 6Y (out), 18 6A (in), 19 6B (in)
part G pins: 10 GND (power), 20 VCC (power)

## SNJ54AS804BW
designator U?
Hex 2-Input NAND Drivers, W0020A, TUBE; Generic Part Number: SN54AS804B; Manufacturer: Texas Instruments; PartNumber: SNJ54AS804BW; VCC(Min)(V): 4.5; VCC(Max)(V): 5.5; Output Type: TTL; Rating: Military; Technology Family: AS; Schmitt Trigger: No; DatasheetVersion: SDAS022C; PackageReference: W0020A; Input Type: TTL; Operating Temperature Range(C): -55 to 125; ComponentLink1Description: Manufacturer URL; ComponentLink1URL: http://www.ti.com/; ComponentLink2Description: Datasheet; ComponentLink2URL: http://www.ti.com/lit/ds/symlink/sn54as804b.pdf; ComponentLink3Description: Package Specification; ComponentLink3URL: http://www.ti.com/lit/ml/mcfp006d/mcfp006d.pdf
footprint W0020A_N (CFP, 20-Leads, Body 13.72x7.62mm, Pitch 1.27mm, IPC Medium Density)
footprint W0020A_M (CFP, 20-Leads, Body 13.72x7.62mm, Pitch 1.27mm, IPC Low Density)
footprint W0020A_L (CFP, 20-Leads, Body 13.72x7.62mm, Pitch 1.27mm, IPC High Density)
part A pins: 1 1A (in), 2 1B (in), 3 1Y (out)
part B pins: 4 2A (in), 5 2B (in), 6 2Y (out)
part C pins: 7 3A (in), 8 3B (in), 9 3Y (out)
part D pins: 11 4Y (out), 12 4A (in), 13 4B (in)
part E pins: 14 5Y (out), 15 5A (in), 16 5B (in)
part F pins: 17 6Y (out), 18 6A (in), 19 6B (in)
part G pins: 10 GND (power), 20 VCC (power)

## SNJ54AS805BFK
designator U?
Hex 2-Input NOR Drivers, FK0020A, TUBE; Generic Part Number: SN54AS805B; Manufacturer: Texas Instruments; PartNumber: SNJ54AS805BFK; VCC(Min)(V): 4.5; VCC(Max)(V): 5.5; Output Type: TTL; Bits(#): 6; Rating: Military; tpd @ Nom Voltage(Max)(ns): 4.8; DatasheetVersion: SDAS023C; PackageReference: FK0020A; Input Type: TTL; Operating Temperature Range(C): -55 to 125; Code_JEDEC: MS-004; ComponentLink1Description: Manufacturer URL; ComponentLink1URL: http://www.ti.com/; ComponentLink2Description: Datasheet; ComponentLink2URL: http://www.ti.com/lit/ds/symlink/sn54as805b.pdf; ComponentLink3Description: Package Specification; ComponentLink3URL: http://www.ti.com/lit/ml/mlcc006d/mlcc006d.pdf
footprint FK0020A_N (LCC, 20-Leads, Body 8.9x8.9mm, Pitch 1.27mm, IPC Medium Density)
footprint FK0020A_M (LCC, 20-Leads, Body 8.9x8.9mm, Pitch 1.27mm, IPC Low Density)
footprint FK0020A_L (LCC, 20-Leads, Body 8.9x8.9mm, Pitch 1.27mm, IPC High Density)
part A pins: 1 1A (in), 2 1B (in), 3 1Y (out)
part B pins: 4 2A (in), 5 2B (in), 6 2Y (out)
part C pins: 7 3A (in), 8 3B (in), 9 3Y (out)
part D pins: 11 4Y (out), 12 4A (in), 13 4B (in)
part E pins: 14 5Y (out), 15 5A (in), 16 5B (in)
part F pins: 17 6Y (out), 18 6A (in), 19 6B (in)
part G pins: 10 GND (power), 20 VCC (power)

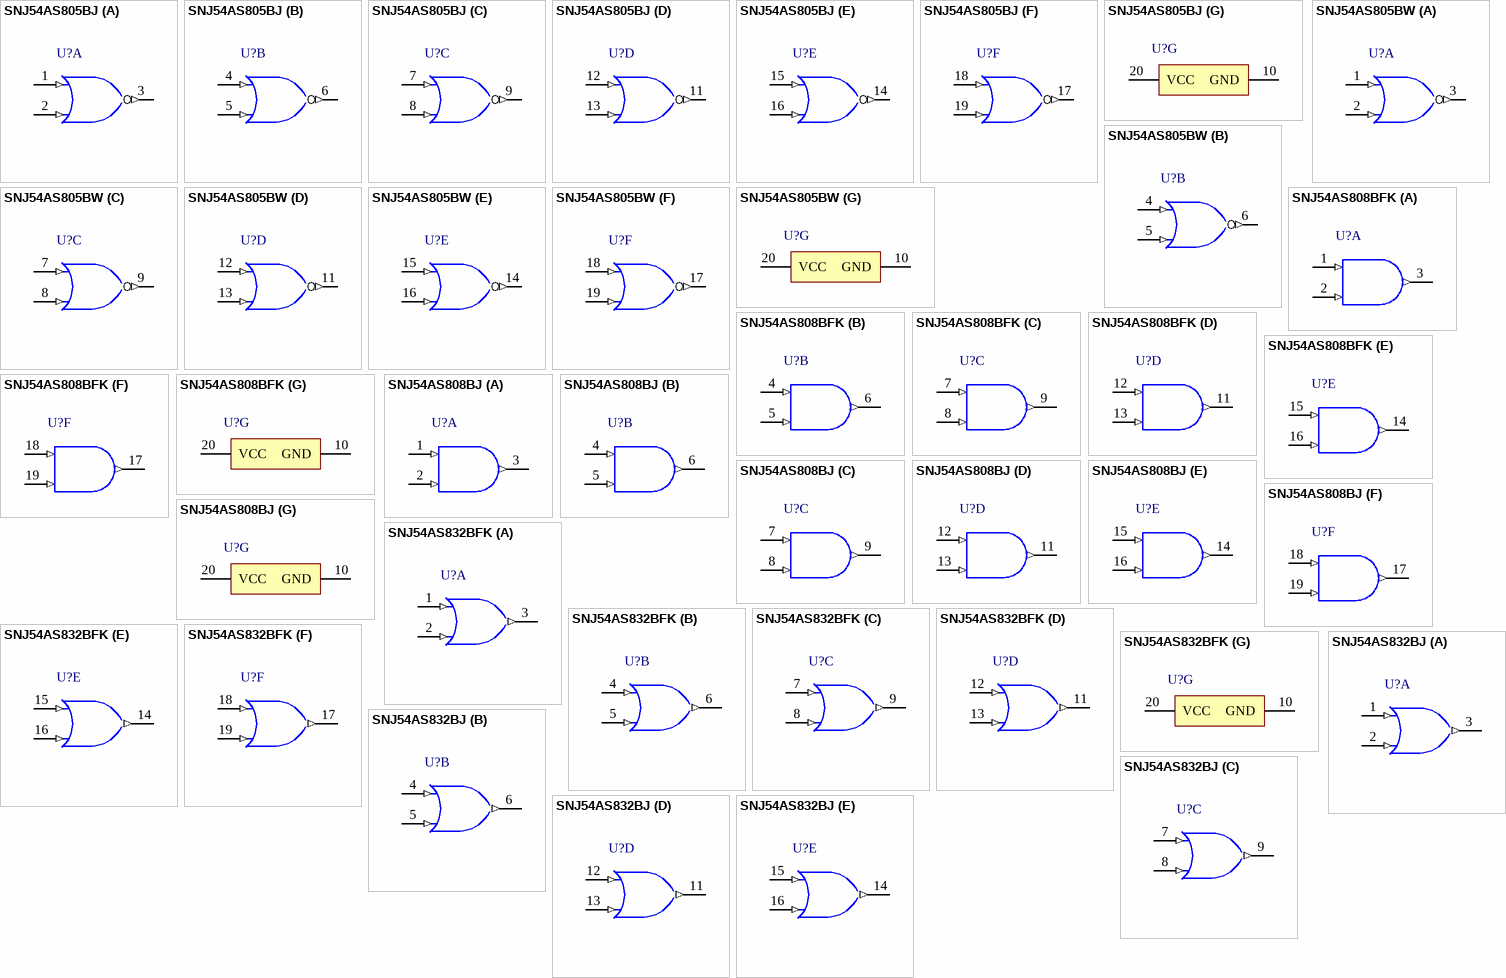
[diagram p201: symbols SNJ54AS805BJ to SNJ54AS832BJ]

## SNJ54AS805BJ
designator U?
Hex 2-Input NOR Drivers, J0020A, TUBE; Generic Part Number: SN54AS805B; Manufacturer: Texas Instruments; PartNumber: SNJ54AS805BJ; VCC(Min)(V): 4.5; VCC(Max)(V): 5.5; Output Type: TTL; Bits(#): 6; Rating: Military; tpd @ Nom Voltage(Max)(ns): 4.8; DatasheetVersion: SDAS023C; PackageReference: J0020A; Input Type: TTL; Operating Temperature Range(C): -55 to 125; ComponentLink1Description: Manufacturer URL; ComponentLink1URL: http://www.ti.com/; ComponentLink2Description: Datasheet; ComponentLink2URL: http://www.ti.com/lit/ds/symlink/sn54as805b.pdf; ComponentLink3Description: Package Specification; ComponentLink3URL: http://www.ti.com/lit/ml/mcer002d/mcer002d.pdf
footprint J0020A (DIP, 20-Leads, Body 26.9x7.2mm, Pitch 2.54mm)
part A pins: 1 1A (in), 2 1B (in), 3 1Y (out)
part B pins: 4 2A (in), 5 2B (in), 6 2Y (out)
part C pins: 7 3A (in), 8 3B (in), 9 3Y (out)
part D pins: 11 4Y (out), 12 4A (in), 13 4B (in)
part E pins: 14 5Y (out), 15 5A (in), 16 5B (in)
part F pins: 17 6Y (out), 18 6A (in), 19 6B (in)
part G pins: 10 GND (power), 20 VCC (power)

## SNJ54AS805BW
designator U?
Hex 2-Input NOR Drivers, W0020A, TUBE; Generic Part Number: SN54AS805B; Manufacturer: Texas Instruments; PartNumber: SNJ54AS805BW; VCC(Min)(V): 4.5; VCC(Max)(V): 5.5; Output Type: TTL; Bits(#): 6; Rating: Military; tpd @ Nom Voltage(Max)(ns): 4.8; DatasheetVersion: SDAS023C; PackageReference: W0020A; Input Type: TTL; Operating Temperature Range(C): -55 to 125; ComponentLink1Description: Manufacturer URL; ComponentLink1URL: http://www.ti.com/; ComponentLink2Description: Datasheet; ComponentLink2URL: http://www.ti.com/lit/ds/symlink/sn54as805b.pdf; ComponentLink3Description: Package Specification; ComponentLink3URL: http://www.ti.com/lit/ml/mcfp006d/mcfp006d.pdf
footprint W0020A_N (CFP, 20-Leads, Body 13.72x7.62mm, Pitch 1.27mm, IPC Medium Density)
footprint W0020A_M (CFP, 20-Leads, Body 13.72x7.62mm, Pitch 1.27mm, IPC Low Density)
footprint W0020A_L (CFP, 20-Leads, Body 13.72x7.62mm, Pitch 1.27mm, IPC High Density)
part A pins: 1 1A (in), 2 1B (in), 3 1Y (out)
part B pins: 4 2A (in), 5 2B (in), 6 2Y (out)
part C pins: 7 3A (in), 8 3B (in), 9 3Y (out)
part D pins: 11 4Y (out), 12 4A (in), 13 4B (in)
part E pins: 14 5Y (out), 15 5A (in), 16 5B (in)
part F pins: 17 6Y (out), 18 6A (in), 19 6B (in)
part G pins: 10 GND (power), 20 VCC (power)

## SNJ54AS808BFK
designator U?
Hex 2-Input And Drivers, FK0020A, TUBE; Generic Part Number: SN54AS808B; Manufacturer: Texas Instruments; PartNumber: SNJ54AS808BFK; VCC(Min)(V): 4.5; VCC(Max)(V): 5.5; Output Type: TTL; Rating: Military; Technology Family: AS; Schmitt Trigger: No; tpd @ Nom Voltage(Max)(ns): 6.5; DatasheetVersion: SDAS018C; PackageReference: FK0020A; Input Type: TTL; Operating Temperature Range(C): -55 to 125; Code_JEDEC: MS-004; ComponentLink1Description: Manufacturer URL; ComponentLink1URL: http://www.ti.com/; ComponentLink2Description: Datasheet; ComponentLink2URL: http://www.ti.com/lit/ds/symlink/sn54as808b.pdf; ComponentLink3Description: Package Specification; ComponentLink3URL: http://www.ti.com/lit/ml/mlcc006d/mlcc006d.pdf
footprint FK0020A_N (LCC, 20-Leads, Body 8.9x8.9mm, Pitch 1.27mm, IPC Medium Density)
footprint FK0020A_M (LCC, 20-Leads, Body 8.9x8.9mm, Pitch 1.27mm, IPC Low Density)
footprint FK0020A_L (LCC, 20-Leads, Body 8.9x8.9mm, Pitch 1.27mm, IPC High Density)
part A pins: 1 1A (in), 2 1B (in), 3 1Y (out)
part B pins: 4 2A (in), 5 2B (in), 6 2Y (out)
part C pins: 7 3A (in), 8 3B (in), 9 3Y (out)
part D pins: 11 4Y (out), 12 4A (in), 13 4B (in)
part E pins: 14 5Y (out), 15 5A (in), 16 5B (in)
part F pins: 17 6Y (out), 18 6A (in), 19 6B (in)
part G pins: 10 GND (power), 20 VCC (power)

## SNJ54AS808BJ
designator U?
Hex 2-Input And Drivers, J0020A, TUBE; Generic Part Number: SN54AS808B; Manufacturer: Texas Instruments; PartNumber: SNJ54AS808BJ; VCC(Min)(V): 4.5; VCC(Max)(V): 5.5; Output Type: TTL; Rating: Military; Technology Family: AS; Schmitt Trigger: No; tpd @ Nom Voltage(Max)(ns): 6.5; DatasheetVersion: SDAS018C; PackageReference: J0020A; Input Type: TTL; Operating Temperature Range(C): -55 to 125; ComponentLink1Description: Manufacturer URL; ComponentLink1URL: http://www.ti.com/; ComponentLink2Description: Datasheet; ComponentLink2URL: http://www.ti.com/lit/ds/symlink/sn54as808b.pdf
footprint J0020A (DIP, 20-Leads, Body 26.9x7.2mm, Pitch 2.54mm)
part A pins: 1 1A (in), 2 1B (in), 3 1Y (out)
part B pins: 4 2A (in), 5 2B (in), 6 2Y (out)
part C pins: 7 3A (in), 8 3B (in), 9 3Y (out)
part D pins: 11 4Y (out), 12 4A (in), 13 4B (in)
part E pins: 14 5Y (out), 15 5A (in), 16 5B (in)
part F pins: 17 6Y (out), 18 6A (in), 19 6B (in)
part G pins: 10 GND (power), 20 VCC (power)

## SNJ54AS832BFK
designator U?
Hex 2-Input OR Drivers, FK0020A, TUBE; Generic Part Number: SN54AS832B; Manufacturer: Texas Instruments; PartNumber: SNJ54AS832BFK; VCC(Min)(V): 4.5; VCC(Max)(V): 5.5; Output Type: TTL; Bits(#): 6; Rating: Military; tpd @ Nom Voltage(Max)(ns): 7.5; DatasheetVersion: SDAS017C; PackageReference: FK0020A; Input Type: TTL; Operating Temperature Range(C): -55 to 125; Code_JEDEC: MS-004; ComponentLink1Description: Manufacturer URL; ComponentLink1URL: http://www.ti.com/; ComponentLink2Description: Datasheet; ComponentLink2URL: http://www.ti.com/lit/ds/symlink/sn54as832b.pdf; ComponentLink3Description: Package Specification; ComponentLink3URL: http://www.ti.com/lit/ml/mlcc006d/mlcc006d.pdf
footprint FK0020A_N (LCC, 20-Leads, Body 8.9x8.9mm, Pitch 1.27mm, IPC Medium Density)
footprint FK0020A_M (LCC, 20-Leads, Body 8.9x8.9mm, Pitch 1.27mm, IPC Low Density)
footprint FK0020A_L (LCC, 20-Leads, Body 8.9x8.9mm, Pitch 1.27mm, IPC High Density)
part A pins: 1 1A (in), 2 1B (in), 3 1Y (out)
part B pins: 4 2A (in), 5 2B (in), 6 2Y (out)
part C pins: 7 3A (in), 8 3B (in), 9 3Y (out)
part D pins: 11 4Y (out), 12 4A (in), 13 4B (in)
part E pins: 14 5Y (out), 15 5A (in), 16 5B (in)
part F pins: 17 6Y (out), 18 6A (in), 19 6B (in)
part G pins: 10 GND (power), 20 VCC (power)

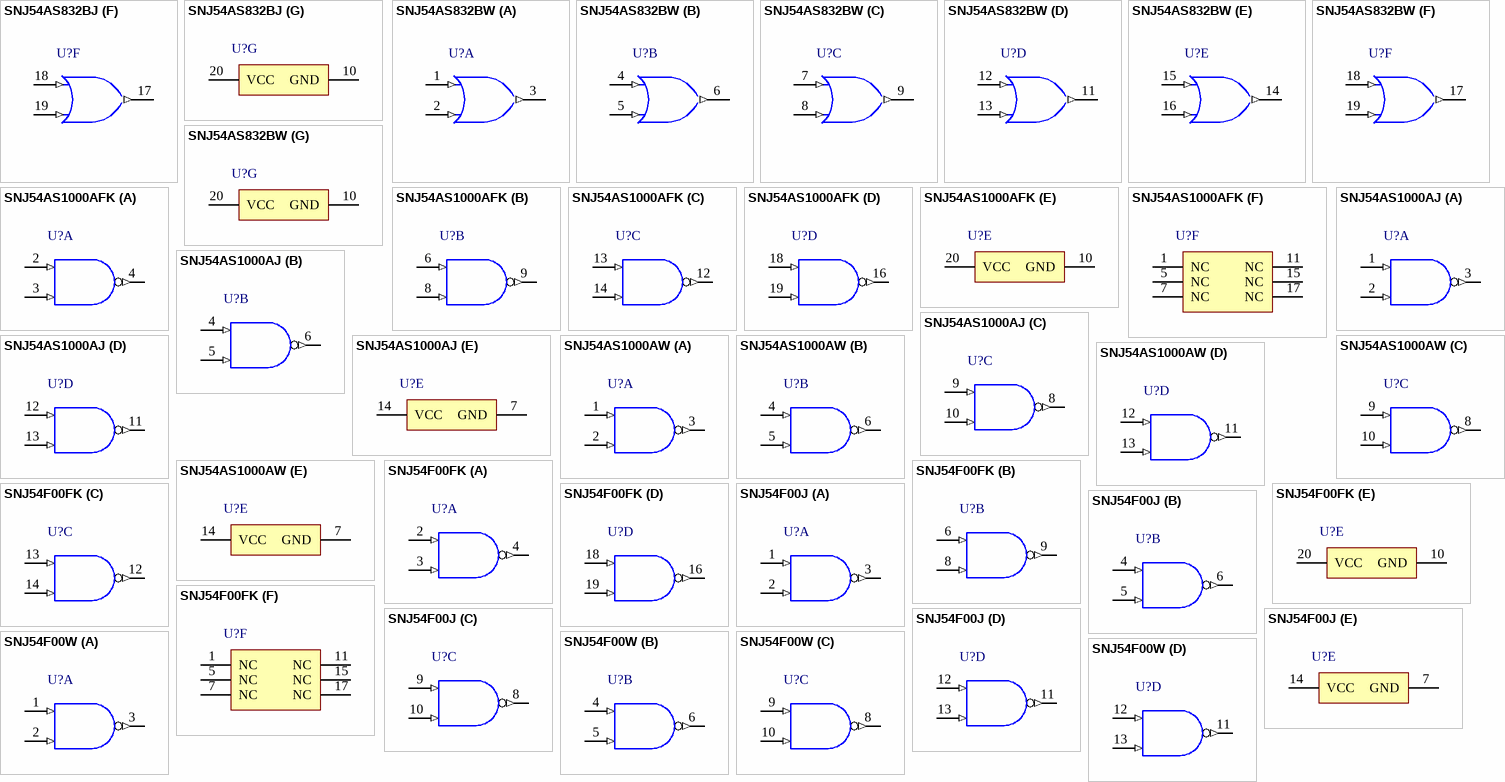
[diagram p202: symbols SNJ54AS832BJ to SNJ54F00W]

## SNJ54AS832BJ
designator U?
Hex 2-Input OR Drivers, J0020A, TUBE; Generic Part Number: SN54AS832B; Manufacturer: Texas Instruments; PartNumber: SNJ54AS832BJ; VCC(Min)(V): 4.5; VCC(Max)(V): 5.5; Output Type: TTL; Bits(#): 6; Rating: Military; tpd @ Nom Voltage(Max)(ns): 7.5; DatasheetVersion: SDAS017C; PackageReference: J0020A; Input Type: TTL; Operating Temperature Range(C): -55 to 125; ComponentLink1Description: Manufacturer URL; ComponentLink1URL: http://www.ti.com/; ComponentLink2Description: Datasheet; ComponentLink2URL: http://www.ti.com/lit/ds/symlink/sn54as832b.pdf; ComponentLink3Description: Package Specification; ComponentLink3URL: http://www.ti.com/lit/ml/mcer002d/mcer002d.pdf
footprint J0020A (DIP, 20-Leads, Body 26.9x7.2mm, Pitch 2.54mm)
part A pins: 1 1A (in), 2 1B (in), 3 1Y (out)
part B pins: 4 2A (in), 5 2B (in), 6 2Y (out)
part C pins: 7 3A (in), 8 3B (in), 9 3Y (out)
part D pins: 11 4Y (out), 12 4A (in), 13 4B (in)
part E pins: 14 5Y (out), 15 5A (in), 16 5B (in)
part F pins: 17 6Y (out), 18 6A (in), 19 6B (in)
part G pins: 10 GND (power), 20 VCC (power)

## SNJ54AS832BW
designator U?
Hex 2-Input OR Drivers, W0020A, TUBE; Generic Part Number: SN54AS832B; Manufacturer: Texas Instruments; PartNumber: SNJ54AS832BW; VCC(Min)(V): 4.5; VCC(Max)(V): 5.5; Output Type: TTL; Bits(#): 6; Rating: Military; tpd @ Nom Voltage(Max)(ns): 7.5; DatasheetVersion: SDAS017C; PackageReference: W0020A; Input Type: TTL; Operating Temperature Range(C): -55 to 125; ComponentLink1Description: Manufacturer URL; ComponentLink1URL: http://www.ti.com/; ComponentLink2Description: Datasheet; ComponentLink2URL: http://www.ti.com/lit/ds/symlink/sn54as832b.pdf; ComponentLink3Description: Package Specification; ComponentLink3URL: http://www.ti.com/lit/ml/mcfp006d/mcfp006d.pdf
footprint W0020A_N (CFP, 20-Leads, Body 13.72x7.62mm, Pitch 1.27mm, IPC Medium Density)
footprint W0020A_M (CFP, 20-Leads, Body 13.72x7.62mm, Pitch 1.27mm, IPC Low Density)
footprint W0020A_L (CFP, 20-Leads, Body 13.72x7.62mm, Pitch 1.27mm, IPC High Density)
part A pins: 1 1A (in), 2 1B (in), 3 1Y (out)
part B pins: 4 2A (in), 5 2B (in), 6 2Y (out)
part C pins: 7 3A (in), 8 3B (in), 9 3Y (out)
part D pins: 11 4Y (out), 12 4A (in), 13 4B (in)
part E pins: 14 5Y (out), 15 5A (in), 16 5B (in)
part F pins: 17 6Y (out), 18 6A (in), 19 6B (in)
part G pins: 10 GND (power), 20 VCC (power)

## SNJ54AS1000AFK
designator U?
Quadruple 2-Input Positive-NAND Buffers/Drivers, FK0020A, TUBE; Generic Part Number: SN54AS1000A; Manufacturer: Texas Instruments; PartNumber: SNJ54AS1000AFK; VCC(Min)(V): 4.5; VCC(Max)(V): 5.5; Output Type: TTL; Rating: Military; Technology Family: AS; Schmitt Trigger: No; DatasheetVersion: SDAS056B; PackageReference: FK0020A; Input Type: TTL; Operating Temperature Range(C): -55 to 125; Code_JEDEC: MS-004; ComponentLink1Description: Manufacturer URL; ComponentLink1URL: http://www.ti.com/; ComponentLink2Description: Datasheet; ComponentLink2URL: http://www.ti.com/lit/ds/symlink/sn54as1000a.pdf; ComponentLink3Description: Package Specification; ComponentLink3URL: http://www.ti.com/lit/ml/mlcc006d/mlcc006d.pdf
footprint FK0020A_N (LCC, 20-Leads, Body 8.9x8.9mm, Pitch 1.27mm, IPC Medium Density)
footprint FK0020A_M (LCC, 20-Leads, Body 8.9x8.9mm, Pitch 1.27mm, IPC Low Density)
footprint FK0020A_L (LCC, 20-Leads, Body 8.9x8.9mm, Pitch 1.27mm, IPC High Density)
part A pins: 2 1A (in), 3 1B (in), 4 1Y (out)
part B pins: 6 2A (in), 8 2B (in), 9 2Y (out)
part C pins: 12 3Y (out), 13 3A (in), 14 3B (in)
part D pins: 16 4Y (out), 18 4A (in), 19 4B (in)
part E pins: 10 GND (power), 20 VCC (power)
part F pins: 1 NC, 5 NC, 7 NC, 11 NC, 15 NC, 17 NC

## SNJ54AS1000AJ
designator U?
Quadruple 2-Input Positive-NAND Buffers/Drivers, J0014A, TUBE; Generic Part Number: SN54AS1000A; Manufacturer: Texas Instruments; PartNumber: SNJ54AS1000AJ; VCC(Min)(V): 4.5; VCC(Max)(V): 5.5; Output Type: TTL; Rating: Military; Technology Family: AS; Schmitt Trigger: No; DatasheetVersion: SDAS056B; PackageReference: J0014A; Input Type: TTL; Operating Temperature Range(C): -55 to 125; ComponentLink1Description: Manufacturer URL; ComponentLink1URL: http://www.ti.com/; ComponentLink2Description: Datasheet; ComponentLink2URL: http://www.ti.com/lit/ds/symlink/sn54as1000a.pdf; ComponentLink3Description: Package Specification; ComponentLink3URL: http://www.ti.com/lit/ml/mcer002d/mcer002d.pdf
footprint J0014A (DIP, 14-Leads, Body 19.95x7.2mm, Pitch 2.54mm)
part A pins: 1 1A (in) "Gate 1 input", 2 1B (in) "Gate 1 input", 3 1Y (out) "Gate 1 output"
part B pins: 4 2A (in) "Gate 2 input", 5 2B (in) "Gate 2 input", 6 2Y (out) "Gate 2 output"
part C pins: 8 3Y (out) "Gate 3 output", 9 3A (in) "Gate 3 input", 10 3B (in) "Gate 3 input"
part D pins: 11 4Y (out) "Gate 4 output", 12 4A (in) "Gate 4 input", 13 4B (in) "Gate 4 input"
part E pins: 7 GND (power) "Ground Pin", 14 VCC (power) "Power Pin"

## SNJ54AS1000AW
designator U?
Quadruple 2-Input Positive-NAND Buffers/Drivers, W0014A, TUBE; Generic Part Number: SN54AS1000A; Manufacturer: Texas Instruments; PartNumber: SNJ54AS1000AW; VCC(Min)(V): 4.5; VCC(Max)(V): 5.5; Output Type: TTL; Rating: Military; Technology Family: AS; Schmitt Trigger: No; DatasheetVersion: SDAS056B; PackageReference: W0014A; Input Type: TTL; Operating Temperature Range(C): -55 to 125; ComponentLink1Description: Manufacturer URL; ComponentLink1URL: http://www.ti.com/; ComponentLink2Description: Datasheet; ComponentLink2URL: http://www.ti.com/lit/ds/symlink/sn54as1000a.pdf; ComponentLink3Description: Package Specification; ComponentLink3URL: http://www.ti.com/lit/ml/mcfp002c/mcfp002c.pdf
footprint W0014A_N (CFP, 14-Leads, Body 9.91x6.6mm, Pitch 1.27mm, IPC Medium Density)
footprint W0014A_M (CFP, 14-Leads, Body 9.91x6.6mm, Pitch 1.27mm, IPC Low Density)
footprint W0014A_L (CFP, 14-Leads, Body 9.91x6.6mm, Pitch 1.27mm, IPC High Density)
part A pins: 1 1A (in) "Gate 1 input", 2 1B (in) "Gate 1 input", 3 1Y (out) "Gate 1 output"
part B pins: 4 2A (in) "Gate 2 input", 5 2B (in) "Gate 2 input", 6 2Y (out) "Gate 2 output"
part C pins: 8 3Y (out) "Gate 3 output", 9 3A (in) "Gate 3 input", 10 3B (in) "Gate 3 input"
part D pins: 11 4Y (out) "Gate 4 output", 12 4A (in) "Gate 4 input", 13 4B (in) "Gate 4 input"
part E pins: 7 GND (power) "Ground Pin", 14 VCC (power) "Power Pin"

## SNJ54F00FK
designator U?
Quadruple 2-Input Positive-NAND Gates, FK0020A, TUBE; Generic Part Number: SN54F00; Manufacturer: Texas Instruments; PartNumber: SNJ54F00FK; VCC(Min)(V): 4.5; VCC(Max)(V): 5.5; Output Type: TTL; Rating: Military; Technology Family: F; Schmitt Trigger: No; DatasheetVersion: SDFS035A; PackageReference: FK0020A; Input Type: TTL; Operating Temperature Range(C): -55 to 125; Code_JEDEC: MS-004; ComponentLink1Description: Manufacturer URL; ComponentLink1URL: http://www.ti.com/; ComponentLink2Description: Datasheet; ComponentLink2URL: http://www.ti.com/lit/ds/symlink/sn54f00.pdf; ComponentLink3Description: Package Specification; ComponentLink3URL: http://www.ti.com/lit/ml/mlcc006d/mlcc006d.pdf
footprint FK0020A_N (LCC, 20-Leads, Body 8.9x8.9mm, Pitch 1.27mm, IPC Medium Density)
footprint FK0020A_M (LCC, 20-Leads, Body 8.9x8.9mm, Pitch 1.27mm, IPC Low Density)
footprint FK0020A_L (LCC, 20-Leads, Body 8.9x8.9mm, Pitch 1.27mm, IPC High Density)
part A pins: 2 1A (in), 3 1B (in), 4 1Y (out)
part B pins: 6 2A (in), 8 2B (in), 9 2Y (out)
part C pins: 12 3Y (out), 13 3A (in), 14 3B (in)
part D pins: 16 4Y (out), 18 4A (in), 19 4B (in)
part E pins: 10 GND (power), 20 VCC (power)
part F pins: 1 NC, 5 NC, 7 NC, 11 NC, 15 NC, 17 NC

## SNJ54F00J
designator U?
Quadruple 2-Input Positive-NAND Gates, J0014A, TUBE; Generic Part Number: SN54F00; Manufacturer: Texas Instruments; PartNumber: SNJ54F00J; VCC(Min)(V): 4.5; VCC(Max)(V): 5.5; Output Type: TTL; Rating: Military; Technology Family: F; Schmitt Trigger: No; DatasheetVersion: SDFS035A; PackageReference: J0014A; Input Type: TTL; Operating Temperature Range(C): -55 to 125; ComponentLink1Description: Manufacturer URL; ComponentLink1URL: http://www.ti.com/; ComponentLink2Description: Datasheet; ComponentLink2URL: http://www.ti.com/lit/ds/symlink/sn54f00.pdf; ComponentLink3Description: Package Specification; ComponentLink3URL: http://www.ti.com/lit/ml/mcer002d/mcer002d.pdf
footprint J0014A (DIP, 14-Leads, Body 19.95x7.2mm, Pitch 2.54mm)
part A pins: 1 1A (in) "Gate 1 input", 2 1B (in) "Gate 1 input", 3 1Y (out) "Gate 1 output"
part B pins: 4 2A (in) "Gate 2 input", 5 2B (in) "Gate 2 input", 6 2Y (out) "Gate 2 output"
part C pins: 8 3Y (out) "Gate 3 output", 9 3A (in) "Gate 3 input", 10 3B (in) "Gate 3 input"
part D pins: 11 4Y (out) "Gate 4 output", 12 4A (in) "Gate 4 input", 13 4B (in) "Gate 4 input"
part E pins: 7 GND (power) "Ground Pin", 14 VCC (power) "Power Pin"

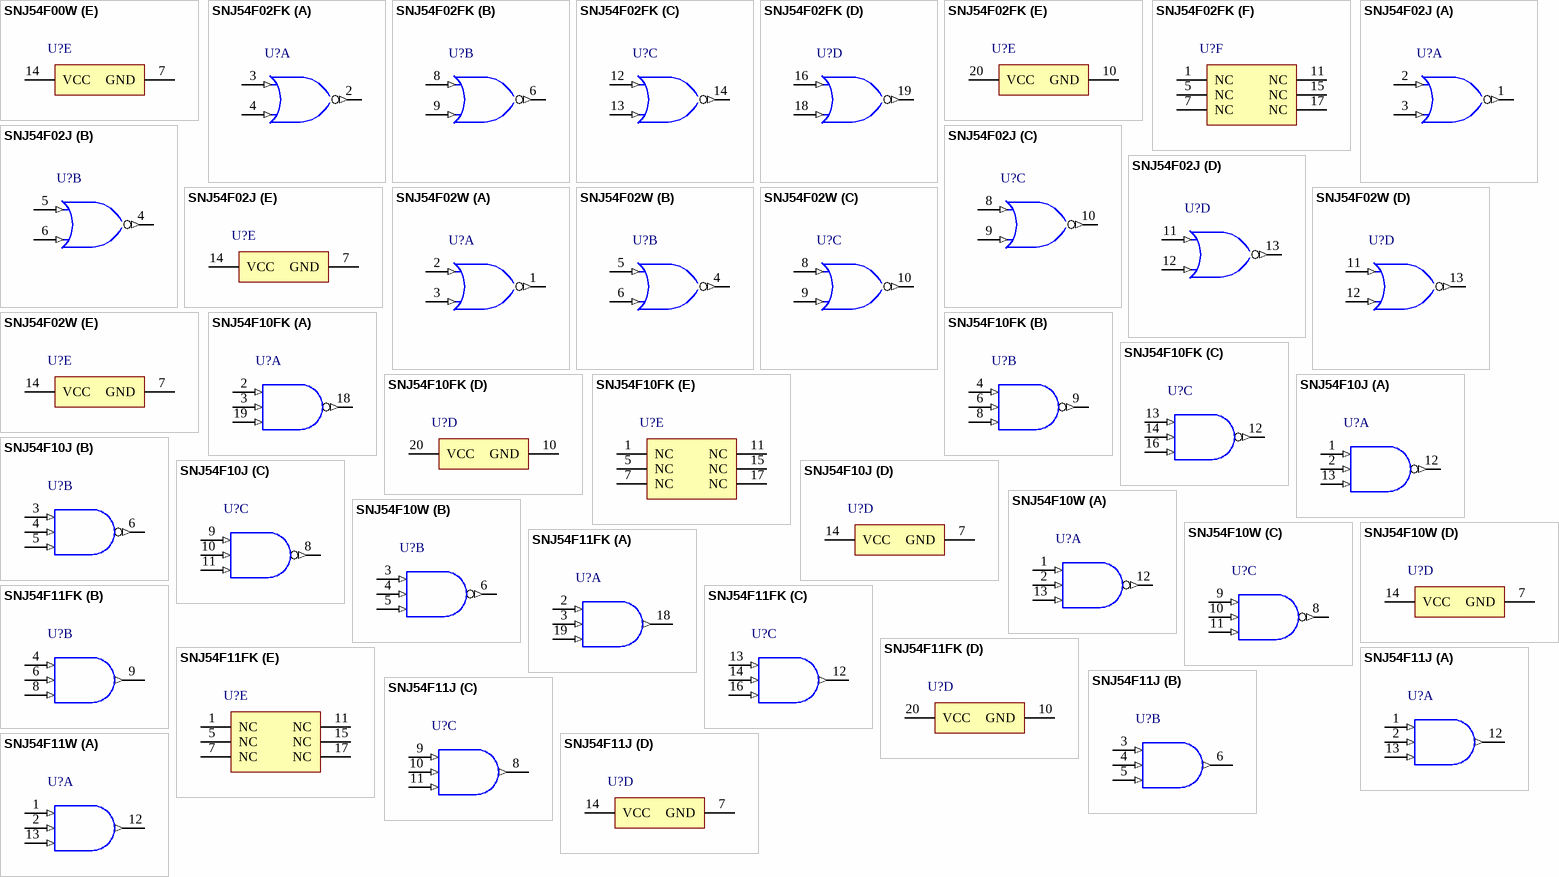
[diagram p203: symbols SNJ54F00W to SNJ54F11W]

## SNJ54F00W
designator U?
Quadruple 2-Input Positive-NAND Gates, W0014A, TUBE; Generic Part Number: SN54F00; Manufacturer: Texas Instruments; PartNumber: SNJ54F00W; VCC(Min)(V): 4.5; VCC(Max)(V): 5.5; Output Type: TTL; Rating: Military; Technology Family: F; Schmitt Trigger: No; DatasheetVersion: SDFS035A; PackageReference: W0014A; Input Type: TTL; Operating Temperature Range(C): -55 to 125; ComponentLink1Description: Manufacturer URL; ComponentLink1URL: http://www.ti.com/; ComponentLink2Description: Datasheet; ComponentLink2URL: http://www.ti.com/lit/ds/symlink/sn54f00.pdf; ComponentLink3Description: Package Specification; ComponentLink3URL: http://www.ti.com/lit/ml/mcfp002c/mcfp002c.pdf
footprint W0014A_N (CFP, 14-Leads, Body 9.91x6.6mm, Pitch 1.27mm, IPC Medium Density)
footprint W0014A_M (CFP, 14-Leads, Body 9.91x6.6mm, Pitch 1.27mm, IPC Low Density)
footprint W0014A_L (CFP, 14-Leads, Body 9.91x6.6mm, Pitch 1.27mm, IPC High Density)
part A pins: 1 1A (in) "Gate 1 input", 2 1B (in) "Gate 1 input", 3 1Y (out) "Gate 1 output"
part B pins: 4 2A (in) "Gate 2 input", 5 2B (in) "Gate 2 input", 6 2Y (out) "Gate 2 output"
part C pins: 8 3Y (out) "Gate 3 output", 9 3A (in) "Gate 3 input", 10 3B (in) "Gate 3 input"
part D pins: 11 4Y (out) "Gate 4 output", 12 4A (in) "Gate 4 input", 13 4B (in) "Gate 4 input"
part E pins: 7 GND (power) "Ground Pin", 14 VCC (power) "Power Pin"

## SNJ54F02FK
designator U?
Quadruple 2-Input Positive-NOR Gates, FK0020A, TUBE; Generic Part Number: SN54F02; Manufacturer: Texas Instruments; PartNumber: SNJ54F02FK; VCC(Min)(V): 4.5; VCC(Max)(V): 5.5; Output Type: TTL; Bits(#): 4; Rating: Military; tpd @ Nom Voltage(Max)(ns): 7.5; DatasheetVersion: SDFS036A; PackageReference: FK0020A; Input Type: TTL; Operating Temperature Range(C): -55 to 125; Code_JEDEC: MS-004; ComponentLink1Description: Manufacturer URL; ComponentLink1URL: http://www.ti.com/; ComponentLink2Description: Datasheet; ComponentLink2URL: http://www.ti.com/lit/ds/symlink/sn54f02.pdf; ComponentLink3Description: Package Specification; ComponentLink3URL: http://www.ti.com/lit/ml/mlcc006d/mlcc006d.pdf
footprint FK0020A_N (LCC, 20-Leads, Body 8.9x8.9mm, Pitch 1.27mm, IPC Medium Density)
footprint FK0020A_M (LCC, 20-Leads, Body 8.9x8.9mm, Pitch 1.27mm, IPC Low Density)
footprint FK0020A_L (LCC, 20-Leads, Body 8.9x8.9mm, Pitch 1.27mm, IPC High Density)
part A pins: 2 1Y (out), 3 1A (in), 4 1B (in)
part B pins: 6 2Y (out), 8 2A (in), 9 2B (in)
part C pins: 12 3A (in), 13 3B (in), 14 3Y (out)
part D pins: 16 4A (in), 18 4B (in), 19 4Y (out)
part E pins: 10 GND (power), 20 VCC (power)
part F pins: 1 NC, 5 NC, 7 NC, 11 NC, 15 NC, 17 NC

## SNJ54F02J
designator U?
Quadruple 2-Input Positive-NOR Gates, J0014A, TUBE; Generic Part Number: SN54F02; Manufacturer: Texas Instruments; PartNumber: SNJ54F02J; VCC(Min)(V): 4.5; VCC(Max)(V): 5.5; Output Type: TTL; Bits(#): 4; Rating: Military; tpd @ Nom Voltage(Max)(ns): 7.5; DatasheetVersion: SDFS036A; PackageReference: J0014A; Input Type: TTL; Operating Temperature Range(C): -55 to 125; ComponentLink1Description: Manufacturer URL; ComponentLink1URL: http://www.ti.com/; ComponentLink2Description: Datasheet; ComponentLink2URL: http://www.ti.com/lit/ds/symlink/sn54f02.pdf; ComponentLink3Description: Package Specification; ComponentLink3URL: http://www.ti.com/lit/ml/mcer002d/mcer002d.pdf
footprint J0014A (DIP, 14-Leads, Body 19.95x7.2mm, Pitch 2.54mm)
part A pins: 1 1Y (out) "1Y output", 2 1A (in) "1A input", 3 1B (in) "1B input"
part B pins: 4 2Y (out) "2Y output", 5 2A (in) "2A input", 6 2B (in) "2B input"
part C pins: 8 3A (in) "3A input", 9 3B (in) "3B input", 10 3Y (out) "3Y output"
part D pins: 11 4A (in) "4A input", 12 4B (in) "4B input", 13 4Y (out) "4Y output"
part E pins: 7 GND (power), 14 VCC (power)